# Altium integrated library NSC Amplifier.IntLib: 1615 symbols (part 23 of 44)
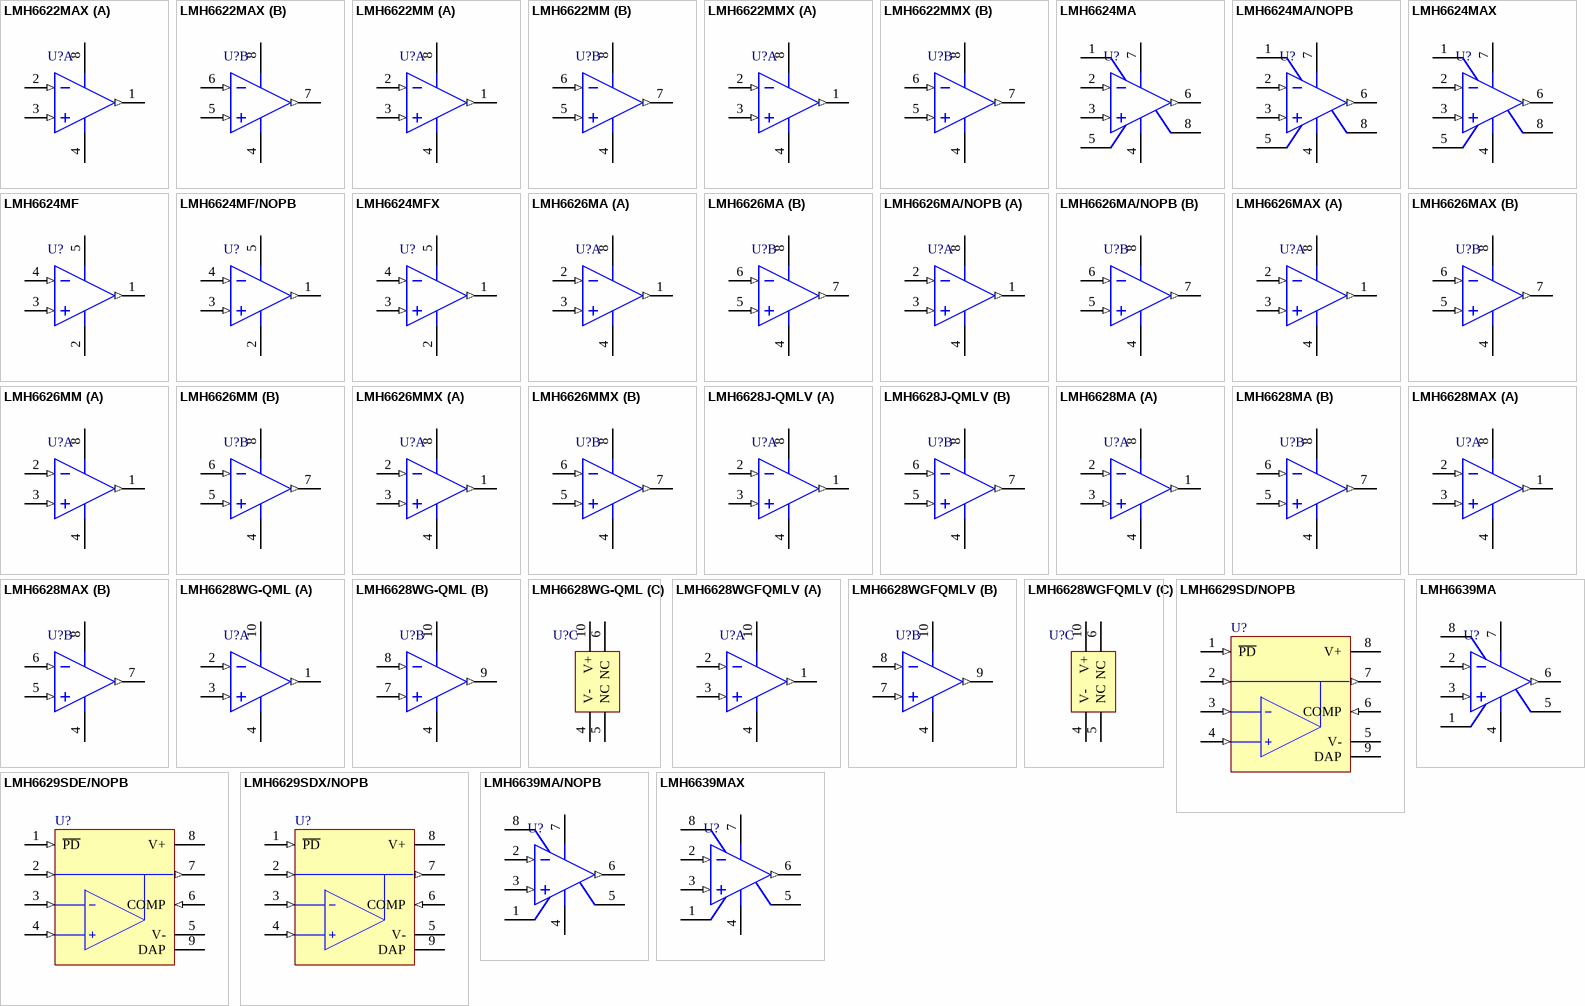
[diagram p104: symbols LMH6622MAX to LMH6639MAX]

## LMH6628MAX
designator U?
Dual Wideband, Low Noise, Voltage Feedback Op Amp, 8-pin Narrow SOIC; PartNumber: LMH6628MAX; Manufacturer: National Semiconductor; PackageTopMarking: NSZXTT*LMH66*28MA; PowerWise: Y; CompType: Amplifiers; Published: 1-Mar-2010; DatasheetVersion: May-2005; PackageVersion: revM, May-2009; PackageReference: M08A; Publisher: Altium Limited; PackageDescription: SOIC Narrow, 4.9 x 3.9 x 1.45mm, 8 Lead, 1.27mm Pitch; RoHS: N; PinCount: 8; Code_JEDEC: MS-012-AA; Code_IPC: SOIC127P600-8; ComponentLink1Description: LMH6628 Datasheet; ComponentLink1URL: http://www.national.com/ds/LM/LMH6628.pdf; ComponentLink2Description: LMH6628 Web Page; ComponentLink2URL: http://www.national.com/pf/LM/LMH6628.html; ComponentLink3Description: M08A Package Page; ComponentLink3URL: http://www.national.com/packaging/folders/m08a.html
footprint M08A_N (SOIC, 8-Leads, Body 4.9x3.9mm, Pitch 1.27mm, IPC Medium Density)
footprint M08A_L (SOIC, 8-Leads, Body 4.9x3.9mm, Pitch 1.27mm, IPC High Density)
footprint M08A_M (SOIC, 8-Leads, Body 4.9x3.9mm, Pitch 1.27mm, IPC Low Density)
simulation model LMH6628 (SUBCKT)
pins on every part: 4 V- (power), 8 V+ (power)
part A pins: 1 OUT1 (out), 2 IN1- (in), 3 IN1+ (in)
part B pins: 5 IN2+ (in), 6 IN2- (in), 7 OUT2 (out)

## LMH6628WG-QML
designator U?
Dual Wideband, Low Noise, Voltage Feedback Op Amp, 10-pin CerPACK; PartNumber: LMH6628WG-QML; Manufacturer: National Semiconductor; PackageTopMarking: NS5962-02*54501MZA*LMH6628*WG-QML Q*ZSSXXYYA; PowerWise: Y; CompType: Amplifiers; Published: 29-May-2009; DatasheetVersion: May-2005; PackageVersion: revF, Oct-2008; PackageReference: WG10A; Publisher: Altium Limited; PackageDescription: Cerpack, .270 x .241 x .070in, 10 Lead, .050in Pitch, Gull Wing; RoHS: N; PinCount: 10; High-Reliability: Y; ComponentLink1Description: LMH6628 Datasheet; ComponentLink1URL: http://www.national.com/ds/LM/LMH6628.pdf; ComponentLink2Description: LMH6628 Web Page; ComponentLink2URL: http://www.national.com/pf/LM/LMH6628.html; ComponentLink3Description: WG10A Package Page; ComponentLink3URL: http://www.national.com/packaging/folders/wg10a.html
footprint WG10A_N (CERPACK, 10-Leads, Body 6.9x6.3mm, Pitch 1.27mm, IPC Medium Density)
footprint WG10A_L (CERPACK, 10-Leads, Body 6.9x6.3mm, Pitch 1.27mm, IPC High Density)
footprint WG10A_M (CERPACK, 10-Leads, Body 6.9x6.3mm, Pitch 1.27mm, IPC Low Density)
simulation model LMH6628 (SUBCKT)
pins on every part: 4 V- (power), 10 V+ (power)
part A pins: 1 OUTA (out), 2 INA- (in), 3 INA+ (in)
part B pins: 7 INB+ (in), 8 INB- (in), 9 OUTB (out)
part C pins: 5 NC, 6 NC

## LMH6628WGFQMLV
designator U?
Dual Wideband, Low Noise, Voltage Feedback Op Amp, 10-pin CerPACK; PartNumber: LMH6628WGFQMLV; Manufacturer: National Semiconductor; PackageTopMarking: NS5962F02*54501VZA*LMH6628*WGFQV Q*ZSSXXYYA; PowerWise: Y; CompType: Amplifiers; Published: 29-May-2009; DatasheetVersion: May-2005; PackageVersion: revF, Oct-2008; PackageReference: WG10A; Publisher: Altium Limited; PackageDescription: Cerpack, .270 x .241 x .070in, 10 Lead, .050in Pitch, Gull Wing; RoHS: N; PinCount: 10; High-Reliability: Y; ComponentLink1Description: LMH6628 Datasheet; ComponentLink1URL: http://www.national.com/ds/LM/LMH6628.pdf; ComponentLink2Description: LMH6628 Web Page; ComponentLink2URL: http://www.national.com/pf/LM/LMH6628.html; ComponentLink3Description: WG10A Package Page; ComponentLink3URL: http://www.national.com/packaging/folders/wg10a.html
footprint WG10A_N (CERPACK, 10-Leads, Body 6.9x6.3mm, Pitch 1.27mm, IPC Medium Density)
footprint WG10A_L (CERPACK, 10-Leads, Body 6.9x6.3mm, Pitch 1.27mm, IPC High Density)
footprint WG10A_M (CERPACK, 10-Leads, Body 6.9x6.3mm, Pitch 1.27mm, IPC Low Density)
simulation model LMH6628 (SUBCKT)
pins on every part: 4 V- (power), 10 V+ (power)
part A pins: 1 OUTA (out), 2 INA- (in), 3 INA+ (in)
part B pins: 7 INB+ (in), 8 INB- (in), 9 OUTB (out)
part C pins: 5 NC, 6 NC

## LMH6629SD/NOPB
designator U?
Ultra-Low Noise, High Speed Operational Amplifier, 8 pin LLP; PartNumber: LMH6629SD/NOPB; Manufacturer: National Semiconductor; PackageTopMarking: ZXYTT*L6629; PowerWise: Y; CompType: Amplifiers; Published: 16-Nov-2010; DatasheetVersion: Jun-2010; PackageVersion: revA, Aug-2003; PackageReference: SDA08A; Publisher: Altium Limited; PackageDescription: LLP, Plastic, Dual, 3 x 3 x 0.8mm Body, 8 Lead, 0.5mm Pitch, No Pullback; Supplier 1: Digi-Key; Supplier Part Number 1: LMH6629SDTR-ND; Supplier 2: Digi-Key; Supplier Part Number 2: LMH6629SDCT-ND; Supplier 3: Digi-Key; Supplier Part Number 3: LMH6629SDDKR-ND; RoHS: Y; PinCount: 8; ComponentLink1Description: LMH6629 Datasheet; ComponentLink1URL: http://www.national.com/ds/LM/LMH6629.pdf; ComponentLink2Description: LMH6629 Web Page; ComponentLink2URL: http://www.national.com/pf/LM/LMH6629.html; ComponentLink3Description: SDA08A Package Page; ComponentLink3URL: http://www.national.com/packaging/folders/sda08a.html
footprint SDA08A (SON, 8-Leads, Body 3x3mm, Pitch 0.5mm, NSC Recommended)
pins: 1 ~{PD} (in), 2 FB (in), 3 IN- (in), 4 IN+ (in), 5 V- (power), 6 COMP (in), 7 OUT (out), 8 V+ (power), 9 DAP (power)

## LMH6629SDE/NOPB
designator U?
Ultra-Low Noise, High Speed Operational Amplifier, 8 pin LLP; PartNumber: LMH6629SDE/NOPB; Manufacturer: National Semiconductor; PackageTopMarking: ZXYTT*L6629; PowerWise: Y; CompType: Amplifiers; Published: 16-Nov-2010; DatasheetVersion: Jun-2010; PackageVersion: revA, Aug-2003; PackageReference: SDA08A; Publisher: Altium Limited; PackageDescription: LLP, Plastic, Dual, 3 x 3 x 0.8mm Body, 8 Lead, 0.5mm Pitch, No Pullback; Supplier 1: Digi-Key; Supplier Part Number 1: LMH6629SDE/NOPB-ND; Supplier 2: Farnell; Supplier Part Number 2: 1836670; RoHS: Y; PinCount: 8; ComponentLink1Description: LMH6629 Datasheet; ComponentLink1URL: http://www.national.com/ds/LM/LMH6629.pdf; ComponentLink2Description: LMH6629 Web Page; ComponentLink2URL: http://www.national.com/pf/LM/LMH6629.html; ComponentLink3Description: SDA08A Package Page; ComponentLink3URL: http://www.national.com/packaging/folders/sda08a.html
footprint SDA08A (SON, 8-Leads, Body 3x3mm, Pitch 0.5mm, NSC Recommended)
pins: 1 ~{PD} (in), 2 FB (in), 3 IN- (in), 4 IN+ (in), 5 V- (power), 6 COMP (in), 7 OUT (out), 8 V+ (power), 9 DAP (power)

## LMH6629SDX/NOPB
designator U?
Ultra-Low Noise, High Speed Operational Amplifier, 8 pin LLP; PartNumber: LMH6629SDX/NOPB; Manufacturer: National Semiconductor; PackageTopMarking: ZXYTT*L6629; PowerWise: Y; CompType: Amplifiers; Published: 16-Nov-2010; DatasheetVersion: Jun-2010; PackageVersion: revA, Aug-2003; PackageReference: SDA08A; Publisher: Altium Limited; PackageDescription: LLP, Plastic, Dual, 3 x 3 x 0.8mm Body, 8 Lead, 0.5mm Pitch, No Pullback; Supplier 1: Digi-Key; Supplier Part Number 1: LMH6629SDX/NOPB-ND; RoHS: Y; PinCount: 8; ComponentLink1Description: LMH6629 Datasheet; ComponentLink1URL: http://www.national.com/ds/LM/LMH6629.pdf; ComponentLink2Description: LMH6629 Web Page; ComponentLink2URL: http://www.national.com/pf/LM/LMH6629.html; ComponentLink3Description: SDA08A Package Page; ComponentLink3URL: http://www.national.com/packaging/folders/sda08a.html
footprint SDA08A (SON, 8-Leads, Body 3x3mm, Pitch 0.5mm, NSC Recommended)
pins: 1 ~{PD} (in), 2 FB (in), 3 IN- (in), 4 IN+ (in), 5 V- (power), 6 COMP (in), 7 OUT (out), 8 V+ (power), 9 DAP (power)

## LMH6639MA
designator U?
190MHz Rail-to-Rail Output Amplifier with Disable, 8-pin Narrow SOIC; PartNumber: LMH6639MA; Manufacturer: National Semiconductor; PackageTopMarking: NSZXTT*LMH66*39MA; PowerWise: Y; CompType: Amplifiers; Published: 4-Dec-2008; LatestRevisionDate: 13-Jan-2009; LatestRevisionNote: Sim Model Added.; DatasheetVersion: Dec-2004; PackageVersion: revM, May-2009; PackageReference: M08A; Publisher: Altium Limited; PackageDescription: SOIC Narrow, 4.9 x 3.9 x 1.45mm, 8 Lead, 1.27mm Pitch; Supplier 1: Farnell; Supplier Part Number 1: 1286940; RoHS: N; PinCount: 8; Code_JEDEC: MS-012-AA; Code_IPC: SOIC127P600-8; ComponentLink1Description: LMH6639 Datasheet; ComponentLink1URL: http://www.national.com/ds/LM/LMH6639.pdf; ComponentLink2Description: LMH6639 Web Page; ComponentLink2URL: http://www.national.com/pf/LM/LMH6639.html; ComponentLink3Description: M08A Package Page; ComponentLink3URL: http://www.national.com/packaging/folders/m08a.html
footprint M08A_N (SOIC, 8-Leads, Body 4.9x3.9mm, Pitch 1.27mm, IPC Medium Density)
footprint M08A_L (SOIC, 8-Leads, Body 4.9x3.9mm, Pitch 1.27mm, IPC High Density)
footprint M08A_M (SOIC, 8-Leads, Body 4.9x3.9mm, Pitch 1.27mm, IPC Low Density)
simulation model LMH6639 (SUBCKT)
pins: 1 NC, 2 IN- (in), 3 IN+ (in), 4 V- (power), 5 NC, 6 OUT (out), 7 V+ (power), 8 ~{SD}

## LMH6639MA/NOPB
designator U?
190MHz Rail-to-Rail Output Amplifier with Disable, 8-pin Narrow SOIC, Pb-Free; PartNumber: LMH6639MA/NOPB; Manufacturer: National Semiconductor; PackageTopMarking: NSZXTT*LMH66*39MA; PowerWise: Y; CompType: Amplifiers; Published: 1-Mar-2010; DatasheetVersion: Dec-2004; PackageVersion: revM, May-2009; PackageReference: M08A; Publisher: Altium Limited; PackageDescription: SOIC Narrow, 4.9 x 3.9 x 1.45mm, 8 Lead, 1.27mm Pitch; Supplier 1: Digi-Key; Supplier Part Number 1: LMH6639MA-ND; Supplier 2: Farnell; Supplier Part Number 2: 1693960; RoHS: Y; PinCount: 8; Code_JEDEC: MS-012-AA; Code_IPC: SOIC127P600-8; ComponentLink1Description: LMH6639 Datasheet; ComponentLink1URL: http://www.national.com/ds/LM/LMH6639.pdf; ComponentLink2Description: LMH6639 Web Page; ComponentLink2URL: http://www.national.com/pf/LM/LMH6639.html; ComponentLink3Description: M08A Package Page; ComponentLink3URL: http://www.national.com/packaging/folders/m08a.html
footprint M08A_N (SOIC, 8-Leads, Body 4.9x3.9mm, Pitch 1.27mm, IPC Medium Density)
footprint M08A_L (SOIC, 8-Leads, Body 4.9x3.9mm, Pitch 1.27mm, IPC High Density)
footprint M08A_M (SOIC, 8-Leads, Body 4.9x3.9mm, Pitch 1.27mm, IPC Low Density)
simulation model LMH6639 (SUBCKT)
pins: 1 NC, 2 IN- (in), 3 IN+ (in), 4 V- (power), 5 NC, 6 OUT (out), 7 V+ (power), 8 ~{SD}

## LMH6639MAX
designator U?
190MHz Rail-to-Rail Output Amplifier with Disable, 8-pin Narrow SOIC; PartNumber: LMH6639MAX; Manufacturer: National Semiconductor; PackageTopMarking: NSZXTT*LMH66*39MA; PowerWise: Y; CompType: Amplifiers; Published: 1-Mar-2010; DatasheetVersion: Dec-2004; PackageVersion: revM, May-2009; PackageReference: M08A; Publisher: Altium Limited; PackageDescription: SOIC Narrow, 4.9 x 3.9 x 1.45mm, 8 Lead, 1.27mm Pitch; RoHS: N; PinCount: 8; Code_JEDEC: MS-012-AA; Code_IPC: SOIC127P600-8; ComponentLink1Description: LMH6639 Datasheet; ComponentLink1URL: http://www.national.com/ds/LM/LMH6639.pdf; ComponentLink2Description: LMH6639 Web Page; ComponentLink2URL: http://www.national.com/pf/LM/LMH6639.html; ComponentLink3Description: M08A Package Page; ComponentLink3URL: http://www.national.com/packaging/folders/m08a.html
footprint M08A_N (SOIC, 8-Leads, Body 4.9x3.9mm, Pitch 1.27mm, IPC Medium Density)
footprint M08A_L (SOIC, 8-Leads, Body 4.9x3.9mm, Pitch 1.27mm, IPC High Density)
footprint M08A_M (SOIC, 8-Leads, Body 4.9x3.9mm, Pitch 1.27mm, IPC Low Density)
simulation model LMH6639 (SUBCKT)
pins: 1 NC, 2 IN- (in), 3 IN+ (in), 4 V- (power), 5 NC, 6 OUT (out), 7 V+ (power), 8 ~{SD}

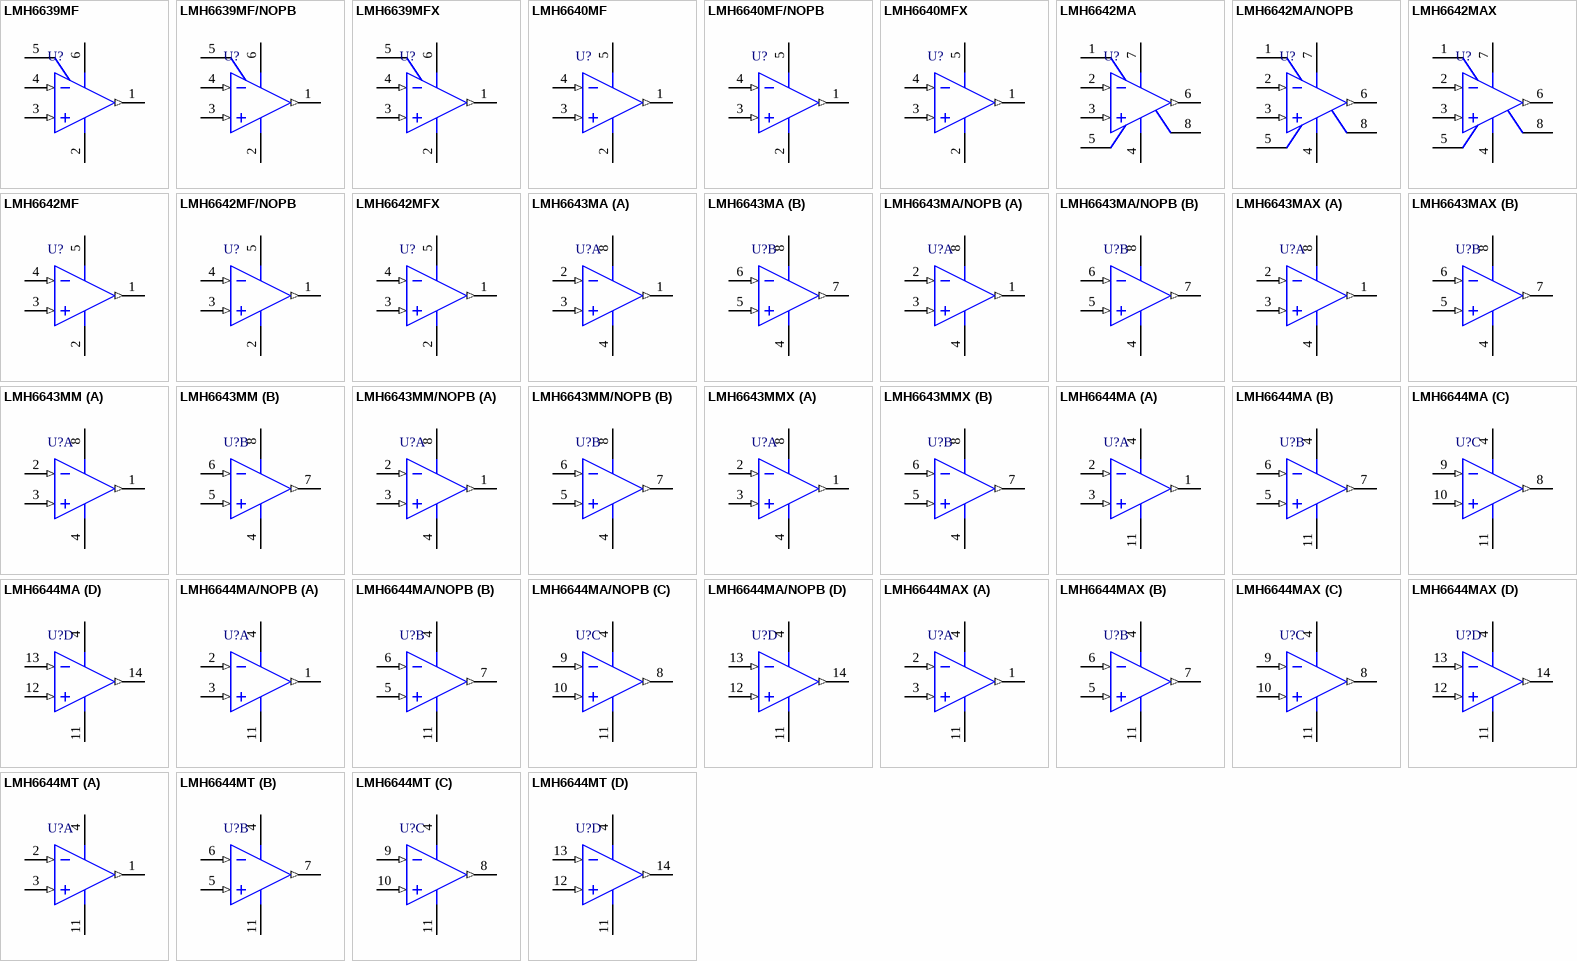
[diagram p46: symbols LMH6639MF to LMH6644MT]

## LMH6639MF
designator U?
190MHz Rail-to-Rail Output Amplifier with Disable, 6-pin SOT-23; PartNumber: LMH6639MF; Manufacturer: National Semiconductor; PackageTopMarking: A81A*XTT; PowerWise: Y; CompType: Amplifiers; Published: 4-Dec-2008; LatestRevisionDate: 13-Jan-2009; LatestRevisionNote: Sim Model Added.; DatasheetVersion: Dec-2004; PackageVersion: revC, Sep-2005; PackageReference: MF06A; Publisher: Altium Limited; PackageDescription: Molded SOT-23, .115 x .063 x .040in Body, 6 Lead, .0375in in Pitch; Supplier 1: Farnell; Supplier Part Number 1: 1312810; RoHS: N; PinCount: 6; Code_JEDEC: MO-178-AB; Code_IPC: SOT26A-6; ComponentLink1Description: LMH6639 Datasheet; ComponentLink1URL: http://www.national.com/ds/LM/LMH6639.pdf; ComponentLink2Description: LMH6639 Web Page; ComponentLink2URL: http://www.national.com/pf/LM/LMH6639.html; ComponentLink3Description: MF06A Package Page; ComponentLink3URL: http://www.national.com/packaging/folders/mf06a.html
footprint MF06A_N (SOT23, 6-Leads, Body 2.9x1.6mm, Pitch 0.95mm, Lead Span 2.8mm, IPC Medium Density)
footprint MF06A_L (SOT23, 6-Leads, Body 2.9x1.6mm, Pitch 0.95mm, Lead Span 2.8mm, IPC High Density)
footprint MF06A_M (SOT23, 6-Leads, Body 2.9x1.6mm, Pitch 0.95mm, Lead Span 2.8mm, IPC Low Density)
simulation model LMH6639 (SUBCKT)
pins: 1 OUT (out), 2 V- (power), 3 IN+ (in), 4 IN- (in), 5 ~{SD}, 6 V+ (power)

## LMH6639MF/NOPB
designator U?
190MHz Rail-to-Rail Output Amplifier with Disable, 6-pin SOT-23, Pb-Free; PartNumber: LMH6639MF/NOPB; Manufacturer: National Semiconductor; PackageTopMarking: A81A*XTT; PowerWise: Y; CompType: Amplifiers; Published: 1-Mar-2010; DatasheetVersion: Dec-2004; PackageVersion: revC, Sep-2005; PackageReference: MF06A; Publisher: Altium Limited; PackageDescription: Molded SOT-23, .115 x .063 x .040in Body, 6 Lead, .0375in in Pitch; Supplier 1: Digi-Key; Supplier Part Number 1: LMH6639MFTR-ND; Supplier 2: Digi-Key; Supplier Part Number 2: LMH6639MFCT-ND; Supplier 3: Digi-Key; Supplier Part Number 3: LMH6639MFDKR-ND; Supplier 4: Farnell; Supplier Part Number 4: 1559324; RoHS: Y; PinCount: 6; Code_JEDEC: MO-178-AB; Code_IPC: SOT26A-6; ComponentLink1Description: LMH6639 Datasheet; ComponentLink1URL: http://www.national.com/ds/LM/LMH6639.pdf; ComponentLink2Description: LMH6639 Web Page; ComponentLink2URL: http://www.national.com/pf/LM/LMH6639.html; ComponentLink3Description: MF06A Package Page; ComponentLink3URL: http://www.national.com/packaging/folders/mf06a.html
footprint MF06A_N (SOT23, 6-Leads, Body 2.9x1.6mm, Pitch 0.95mm, Lead Span 2.8mm, IPC Medium Density)
footprint MF06A_L (SOT23, 6-Leads, Body 2.9x1.6mm, Pitch 0.95mm, Lead Span 2.8mm, IPC High Density)
footprint MF06A_M (SOT23, 6-Leads, Body 2.9x1.6mm, Pitch 0.95mm, Lead Span 2.8mm, IPC Low Density)
simulation model LMH6639 (SUBCKT)
pins: 1 OUT (out), 2 V- (power), 3 IN+ (in), 4 IN- (in), 5 ~{SD}, 6 V+ (power)

## LMH6639MFX
designator U?
190MHz Rail-to-Rail Output Amplifier with Disable, 6-pin SOT-23; PartNumber: LMH6639MFX; Manufacturer: National Semiconductor; PackageTopMarking: A81A*XTT; PowerWise: Y; CompType: Amplifiers; Published: 1-Mar-2010; DatasheetVersion: Dec-2004; PackageVersion: revC, Sep-2005; PackageReference: MF06A; Publisher: Altium Limited; PackageDescription: Molded SOT-23, .115 x .063 x .040in Body, 6 Lead, .0375in in Pitch; RoHS: N; PinCount: 6; Code_JEDEC: MO-178-AB; Code_IPC: SOT26A-6; ComponentLink1Description: LMH6639 Datasheet; ComponentLink1URL: http://www.national.com/ds/LM/LMH6639.pdf; ComponentLink2Description: LMH6639 Web Page; ComponentLink2URL: http://www.national.com/pf/LM/LMH6639.html; ComponentLink3Description: MF06A Package Page; ComponentLink3URL: http://www.national.com/packaging/folders/mf06a.html
footprint MF06A_N (SOT23, 6-Leads, Body 2.9x1.6mm, Pitch 0.95mm, Lead Span 2.8mm, IPC Medium Density)
footprint MF06A_L (SOT23, 6-Leads, Body 2.9x1.6mm, Pitch 0.95mm, Lead Span 2.8mm, IPC High Density)
footprint MF06A_M (SOT23, 6-Leads, Body 2.9x1.6mm, Pitch 0.95mm, Lead Span 2.8mm, IPC Low Density)
simulation model LMH6639 (SUBCKT)
pins: 1 OUT (out), 2 V- (power), 3 IN+ (in), 4 IN- (in), 5 ~{SD}, 6 V+ (power)

## LMH6640MF
designator U?
TFT-LCD Single, 16V, Rail-to-Rail High Output Operational Amplifier, 5-pin SOT-23; PartNumber: LMH6640MF; Manufacturer: National Semiconductor; PackageTopMarking: AH1A*XTT; PowerWise: N; CompType: Amplifiers; Published: 4-Dec-2008; DatasheetVersion: Nov-2004; PackageVersion: revD, Aug-2008; PackageReference: MF05A; Publisher: Altium Limited; PackageDescription: Molded SOT-23, .115 x .063 x .040 in Body, 5 Lead, .0375 in Pitch; Supplier 1: Farnell; Supplier Part Number 1: 8180776; RoHS: N; PinCount: 5; ComponentLink1Description: LMH6640 Datasheet; ComponentLink1URL: http://www.national.com/ds/LM/LMH6640.pdf; ComponentLink2Description: LMH6640 Web Page; ComponentLink2URL: http://www.national.com/pf/LM/LMH6640.html; ComponentLink3Description: MF05A Package Page; ComponentLink3URL: http://www.national.com/packaging/folders/mf05a.html
footprint MF05A_N (SOT23, 5-Leads, Body 2.9x1.6mm, Pitch 0.95mm, Lead Span 2.8mm, IPC Medium Density)
footprint MF05A_L (SOT23, 5-Leads, Body 2.9x1.6mm, Pitch 0.95mm, Lead Span 2.8mm, IPC High Density)
footprint MF05A_M (SOT23, 5-Leads, Body 2.9x1.6mm, Pitch 0.95mm, Lead Span 2.8mm, IPC Low Density)
pins: 1 OUT (out), 2 V- (power), 3 IN+ (in), 4 IN- (in), 5 V+ (power)

## LMH6640MF/NOPB
designator U?
TFT-LCD Single, 16V, Rail-to-Rail High Output Operational Amplifier, 5-pin SOT-23, Pb-Free; PartNumber: LMH6640MF/NOPB; Manufacturer: National Semiconductor; PackageTopMarking: AH1A*XTT; PowerWise: N; CompType: Amplifiers; Published: 1-Mar-2010; DatasheetVersion: Nov-2004; PackageVersion: revD, Aug-2008; PackageReference: MF05A; Publisher: Altium Limited; PackageDescription: Molded SOT-23, .115 x .063 x .040 in Body, 5 Lead, .0375 in Pitch; Supplier 1: Digi-Key; Supplier Part Number 1: LMH6640MFTR-ND; Supplier 2: Digi-Key; Supplier Part Number 2: LMH6640MFCT-ND; Supplier 3: Digi-Key; Supplier Part Number 3: LMH6640MFDKR-ND; Supplier 4: Farnell; Supplier Part Number 4: 1685371; RoHS: Y; PinCount: 5; ComponentLink1Description: LMH6640 Datasheet; ComponentLink1URL: http://www.national.com/ds/LM/LMH6640.pdf; ComponentLink2Description: LMH6640 Web Page; ComponentLink2URL: http://www.national.com/pf/LM/LMH6640.html; ComponentLink3Description: MF05A Package Page; ComponentLink3URL: http://www.national.com/packaging/folders/mf05a.html
footprint MF05A_N (SOT23, 5-Leads, Body 2.9x1.6mm, Pitch 0.95mm, Lead Span 2.8mm, IPC Medium Density)
footprint MF05A_L (SOT23, 5-Leads, Body 2.9x1.6mm, Pitch 0.95mm, Lead Span 2.8mm, IPC High Density)
footprint MF05A_M (SOT23, 5-Leads, Body 2.9x1.6mm, Pitch 0.95mm, Lead Span 2.8mm, IPC Low Density)
pins: 1 OUT (out), 2 V- (power), 3 IN+ (in), 4 IN- (in), 5 V+ (power)

## LMH6640MFX
designator U?
TFT-LCD Single, 16V, Rail-to-Rail High Output Operational Amplifier, 5-pin SOT-23; PartNumber: LMH6640MFX; Manufacturer: National Semiconductor; PackageTopMarking: AH1A*XTT; PowerWise: N; CompType: Amplifiers; Published: 1-Mar-2010; DatasheetVersion: Nov-2004; PackageVersion: revD, Aug-2008; PackageReference: MF05A; Publisher: Altium Limited; PackageDescription: Molded SOT-23, .115 x .063 x .040 in Body, 5 Lead, .0375 in Pitch; RoHS: N; PinCount: 5; ComponentLink1Description: LMH6640 Datasheet; ComponentLink1URL: http://www.national.com/ds/LM/LMH6640.pdf; ComponentLink2Description: LMH6640 Web Page; ComponentLink2URL: http://www.national.com/pf/LM/LMH6640.html; ComponentLink3Description: MF05A Package Page; ComponentLink3URL: http://www.national.com/packaging/folders/mf05a.html
footprint MF05A_N (SOT23, 5-Leads, Body 2.9x1.6mm, Pitch 0.95mm, Lead Span 2.8mm, IPC Medium Density)
footprint MF05A_L (SOT23, 5-Leads, Body 2.9x1.6mm, Pitch 0.95mm, Lead Span 2.8mm, IPC High Density)
footprint MF05A_M (SOT23, 5-Leads, Body 2.9x1.6mm, Pitch 0.95mm, Lead Span 2.8mm, IPC Low Density)
pins: 1 OUT (out), 2 V- (power), 3 IN+ (in), 4 IN- (in), 5 V+ (power)

## LMH6642MA
designator U?
Low Power, 130MHz, 75mA Rail-to-Rail Output Amplifier, 8-pin Narrow SOIC; PartNumber: LMH6642MA; Manufacturer: National Semiconductor; PackageTopMarking: NSZXTT*LMH66*42MA; PowerWise: Y; CompType: Amplifiers; Published: 4-Dec-2008; LatestRevisionDate: 13-Jan-2009; LatestRevisionNote: Sim Model Added.; DatasheetVersion: Nov-2009; PackageVersion: revM, May-2009; PackageReference: M08A; Publisher: Altium Limited; PackageDescription: SOIC Narrow, 4.9 x 3.9 x 1.45mm, 8 Lead, 1.27mm Pitch; Supplier 1: Farnell; Supplier Part Number 1: 9490167; RoHS: N; PinCount: 8; Code_JEDEC: MS-012-AA; Code_IPC: SOIC127P600-8; ComponentLink1Description: LMH6642 Datasheet; ComponentLink1URL: http://www.national.com/ds/LM/LMH6642.pdf; ComponentLink2Description: LMH6642 Web Page; ComponentLink2URL: http://www.national.com/pf/LM/LMH6642.html; ComponentLink3Description: M08A Package Page; ComponentLink3URL: http://www.national.com/packaging/folders/m08a.html
footprint M08A_N (SOIC, 8-Leads, Body 4.9x3.9mm, Pitch 1.27mm, IPC Medium Density)
footprint M08A_L (SOIC, 8-Leads, Body 4.9x3.9mm, Pitch 1.27mm, IPC High Density)
footprint M08A_M (SOIC, 8-Leads, Body 4.9x3.9mm, Pitch 1.27mm, IPC Low Density)
simulation model LMH6642 (SUBCKT)
pins: 1 NC, 2 IN- (in), 3 IN+ (in), 4 V- (power), 5 NC, 6 OUT (out), 7 V+ (power), 8 NC

## LMH6642MA/NOPB
designator U?
Low Power, 130MHz, 75mA Rail-to-Rail Output Amplifiers, 8-pin Narrow SOIC, Pb-Free; PartNumber: LMH6642MA/NOPB; Manufacturer: National Semiconductor; PackageTopMarking: NSZXTT*LMH66*42MA; PowerWise: Y; Published: 1-Mar-2010; DatasheetVersion: Nov-2009; PackageVersion: revM, May-2009; PackageReference: M08A; Publisher: Altium Limited; PackageDescription: SOIC Narrow, 4.9 x 3.9 x 1.45mm, 8 Lead, 1.27mm Pitch; Supplier 1: Digi-Key; Supplier Part Number 1: LMH6642MA-ND; Supplier 2: Farnell; Supplier Part Number 2: 1367574; RoHS: Y; PinCount: 8; CompType: Amplifiers; Code_JEDEC: MS-012-AA; Code_IPC: SOIC127P600-8; ComponentLink1Description: LMH6642 Datasheet; ComponentLink1URL: http://www.national.com/ds/LM/LMH6642.pdf; ComponentLink2Description: LMH6642 Web Page; ComponentLink2URL: http://www.national.com/pf/LM/LMH6642.html; ComponentLink3Description: M08A Package Page; ComponentLink3URL: http://www.national.com/packaging/folders/m08a.html
footprint M08A_N (SOIC, 8-Leads, Body 4.9x3.9mm, Pitch 1.27mm, IPC Medium Density)
footprint M08A_L (SOIC, 8-Leads, Body 4.9x3.9mm, Pitch 1.27mm, IPC High Density)
footprint M08A_M (SOIC, 8-Leads, Body 4.9x3.9mm, Pitch 1.27mm, IPC Low Density)
simulation model LMH6642 (SUBCKT)
pins: 1 NC, 2 IN- (in), 3 IN+ (in), 4 V- (power), 5 NC, 6 OUT (out), 7 V+ (power), 8 NC

## LMH6642MAX
designator U?
Low Power, 130MHz, 75mA Rail-to-Rail Output Amplifiers, 8-pin Narrow SOIC; PartNumber: LMH6642MAX; Manufacturer: National Semiconductor; PackageTopMarking: NSZXTT*LMH66*42MA; PowerWise: Y; Published: 1-Mar-2010; DatasheetVersion: Nov-2009; PackageVersion: revM, May-2009; PackageReference: M08A; Publisher: Altium Limited; PackageDescription: SOIC Narrow, 4.9 x 3.9 x 1.45mm, 8 Lead, 1.27mm Pitch; RoHS: N; PinCount: 8; CompType: Amplifiers; Code_JEDEC: MS-012-AA; Code_IPC: SOIC127P600-8; ComponentLink1Description: LMH6642 Datasheet; ComponentLink1URL: http://www.national.com/ds/LM/LMH6642.pdf; ComponentLink2Description: LMH6642 Web Page; ComponentLink2URL: http://www.national.com/pf/LM/LMH6642.html; ComponentLink3Description: M08A Package Page; ComponentLink3URL: http://www.national.com/packaging/folders/m08a.html
footprint M08A_N (SOIC, 8-Leads, Body 4.9x3.9mm, Pitch 1.27mm, IPC Medium Density)
footprint M08A_L (SOIC, 8-Leads, Body 4.9x3.9mm, Pitch 1.27mm, IPC High Density)
footprint M08A_M (SOIC, 8-Leads, Body 4.9x3.9mm, Pitch 1.27mm, IPC Low Density)
simulation model LMH6642 (SUBCKT)
pins: 1 NC, 2 IN- (in), 3 IN+ (in), 4 V- (power), 5 NC, 6 OUT (out), 7 V+ (power), 8 NC

## LMH6642MF
designator U?
Low Power, 130MHz, 75mA Rail-to-Rail Output Amplifier, 5-pin SOT-23; PartNumber: LMH6642MF; Manufacturer: National Semiconductor; PackageTopMarking: A64A*XTT; PowerWise: Y; CompType: Amplifiers; Published: 4-Dec-2008; LatestRevisionDate: 13-Jan-2009; LatestRevisionNote: Sim Model Added.; DatasheetVersion: Nov-2009; PackageVersion: revD, Aug-2008; PackageReference: MF05A; Publisher: Altium Limited; PackageDescription: Molded SOT-23, .115 x .063 x .040 in Body, 5 Lead, .0375 in Pitch; Supplier 1: Farnell; Supplier Part Number 1: 1312811; RoHS: N; PinCount: 5; ComponentLink1Description: LMH6642 Datasheet; ComponentLink1URL: http://www.national.com/ds/LM/LMH6642.pdf; ComponentLink2Description: LMH6642 Web Page; ComponentLink2URL: http://www.national.com/pf/LM/LMH6642.html; ComponentLink3Description: MF05A Package Page; ComponentLink3URL: http://www.national.com/packaging/folders/mf05a.html
footprint MF05A_N (SOT23, 5-Leads, Body 2.9x1.6mm, Pitch 0.95mm, Lead Span 2.8mm, IPC Medium Density)
footprint MF05A_L (SOT23, 5-Leads, Body 2.9x1.6mm, Pitch 0.95mm, Lead Span 2.8mm, IPC High Density)
footprint MF05A_M (SOT23, 5-Leads, Body 2.9x1.6mm, Pitch 0.95mm, Lead Span 2.8mm, IPC Low Density)
simulation model LMH6642 (SUBCKT)
pins: 1 OUT (out), 2 V- (power), 3 IN+ (in), 4 IN- (in), 5 V+ (power)

## LMH6642MF/NOPB
designator U?
Low Power, 130MHz, 75mA Rail-to-Rail Output Amplifiers, 5-pin SOT-23, Pb-Free; PartNumber: LMH6642MF/NOPB; Manufacturer: National Semiconductor; PackageTopMarking: A64A*XTT; PowerWise: Y; Published: 1-Mar-2010; DatasheetVersion: Nov-2009; PackageVersion: revD, Aug-2008; PackageReference: MF05A; Publisher: Altium Limited; PackageDescription: Molded SOT-23, .115 x .063 x .040 in Body, 5 Lead, .0375 in Pitch; Supplier 1: Digi-Key; Supplier Part Number 1: LMH6642MFTR-ND; Supplier 2: Digi-Key; Supplier Part Number 2: LMH6642MFCT-ND; Supplier 3: Digi-Key; Supplier Part Number 3: LMH6642MFDKR-ND; Supplier 4: Farnell; Supplier Part Number 4: 1468898; RoHS: Y; PinCount: 5; CompType: Amplifiers; ComponentLink1Description: LMH6642 Datasheet; ComponentLink1URL: http://www.national.com/ds/LM/LMH6642.pdf; ComponentLink2Description: LMH6642 Web Page; ComponentLink2URL: http://www.national.com/pf/LM/LMH6642.html; ComponentLink3Description: MF05A Package Page; ComponentLink3URL: http://www.national.com/packaging/folders/mf05a.html
footprint MF05A_N (SOT23, 5-Leads, Body 2.9x1.6mm, Pitch 0.95mm, Lead Span 2.8mm, IPC Medium Density)
footprint MF05A_L (SOT23, 5-Leads, Body 2.9x1.6mm, Pitch 0.95mm, Lead Span 2.8mm, IPC High Density)
footprint MF05A_M (SOT23, 5-Leads, Body 2.9x1.6mm, Pitch 0.95mm, Lead Span 2.8mm, IPC Low Density)
simulation model LMH6642 (SUBCKT)
pins: 1 OUT (out), 2 V- (power), 3 IN+ (in), 4 IN- (in), 5 V+ (power)

## LMH6642MFX
designator U?
Low Power, 130MHz, 75mA Rail-to-Rail Output Amplifiers, 5-pin SOT-23; PartNumber: LMH6642MFX; Manufacturer: National Semiconductor; PackageTopMarking: A64A*XTT; PowerWise: Y; Published: 1-Mar-2010; DatasheetVersion: Nov-2009; PackageVersion: revD, Aug-2008; PackageReference: MF05A; Publisher: Altium Limited; PackageDescription: Molded SOT-23, .115 x .063 x .040 in Body, 5 Lead, .0375 in Pitch; RoHS: N; PinCount: 5; CompType: Amplifiers; ComponentLink1Description: LMH6642 Datasheet; ComponentLink1URL: http://www.national.com/ds/LM/LMH6642.pdf; ComponentLink2Description: LMH6642 Web Page; ComponentLink2URL: http://www.national.com/pf/LM/LMH6642.html; ComponentLink3Description: MF05A Package Page; ComponentLink3URL: http://www.national.com/packaging/folders/mf05a.html
footprint MF05A_N (SOT23, 5-Leads, Body 2.9x1.6mm, Pitch 0.95mm, Lead Span 2.8mm, IPC Medium Density)
footprint MF05A_L (SOT23, 5-Leads, Body 2.9x1.6mm, Pitch 0.95mm, Lead Span 2.8mm, IPC High Density)
footprint MF05A_M (SOT23, 5-Leads, Body 2.9x1.6mm, Pitch 0.95mm, Lead Span 2.8mm, IPC Low Density)
simulation model LMH6642 (SUBCKT)
pins: 1 OUT (out), 2 V- (power), 3 IN+ (in), 4 IN- (in), 5 V+ (power)

## LMH6643MA
designator U?
Low Power, 130MHz, 75mA Rail-to-Rail Output Amplifier, 8-pin Narrow SOIC; PartNumber: LMH6643MA; Manufacturer: National Semiconductor; PackageTopMarking: NSZXTT*LMH66*43MA; PowerWise: Y; CompType: Amplifiers; Published: 4-Dec-2008; LatestRevisionDate: 13-Jan-2009; LatestRevisionNote: Sim Model Added.; DatasheetVersion: Nov-2009; PackageVersion: revM, May-2009; PackageReference: M08A; Publisher: Altium Limited; PackageDescription: SOIC Narrow, 4.9 x 3.9 x 1.45mm, 8 Lead, 1.27mm Pitch; Supplier 1: Farnell; Supplier Part Number 1: 4538614; RoHS: N; PinCount: 8; Code_JEDEC: MS-012-AA; Code_IPC: SOIC127P600-8; ComponentLink1Description: LMH6643 Datasheet; ComponentLink1URL: http://www.national.com/ds/LM/LMH6643.pdf; ComponentLink2Description: LMH6643 Web Page; ComponentLink2URL: http://www.national.com/pf/LM/LMH6643.html; ComponentLink3Description: M08A Package Page; ComponentLink3URL: http://www.national.com/packaging/folders/m08a.html
footprint M08A_N (SOIC, 8-Leads, Body 4.9x3.9mm, Pitch 1.27mm, IPC Medium Density)
footprint M08A_L (SOIC, 8-Leads, Body 4.9x3.9mm, Pitch 1.27mm, IPC High Density)
footprint M08A_M (SOIC, 8-Leads, Body 4.9x3.9mm, Pitch 1.27mm, IPC Low Density)
simulation model LMH6643 (SUBCKT)
pins on every part: 4 V- (power), 8 V+ (power)
part A pins: 1 OUTA (out), 2 INA- (in), 3 INA+ (in)
part B pins: 5 INB+ (in), 6 INB- (in), 7 OUTB (out)

## LMH6643MA/NOPB
designator U?
Low Power, 130MHz, 75mA Rail-to-Rail Output Amplifiers, 8-pin Narrow SOIC, Pb-Free; PartNumber: LMH6643MA/NOPB; Manufacturer: National Semiconductor; PackageTopMarking: NSZXTT*LMH66*43MA; PowerWise: Y; Published: 1-Mar-2010; DatasheetVersion: Nov-2009; PackageVersion: revM, May-2009; PackageReference: M08A; Publisher: Altium Limited; PackageDescription: SOIC Narrow, 4.9 x 3.9 x 1.45mm, 8 Lead, 1.27mm Pitch; Supplier 1: Digi-Key; Supplier Part Number 1: LMH6643MA-ND; Supplier 2: Farnell; Supplier Part Number 2: 1199278; RoHS: Y; PinCount: 8; CompType: Amplifiers; Code_JEDEC: MS-012-AA; Code_IPC: SOIC127P600-8; ComponentLink1Description: LMH6643 Datasheet; ComponentLink1URL: http://www.national.com/ds/LM/LMH6643.pdf; ComponentLink2Description: LMH6643 Web Page; ComponentLink2URL: http://www.national.com/pf/LM/LMH6643.html; ComponentLink3Description: M08A Package Page; ComponentLink3URL: http://www.national.com/packaging/folders/m08a.html
footprint M08A_N (SOIC, 8-Leads, Body 4.9x3.9mm, Pitch 1.27mm, IPC Medium Density)
footprint M08A_L (SOIC, 8-Leads, Body 4.9x3.9mm, Pitch 1.27mm, IPC High Density)
footprint M08A_M (SOIC, 8-Leads, Body 4.9x3.9mm, Pitch 1.27mm, IPC Low Density)
simulation model LMH6643 (SUBCKT)
pins on every part: 4 V- (power), 8 V+ (power)
part A pins: 1 OUTA (out), 2 INA- (in), 3 INA+ (in)
part B pins: 5 INB+ (in), 6 INB- (in), 7 OUTB (out)

## LMH6643MAX
designator U?
Low Power, 130MHz, 75mA Rail-to-Rail Output Amplifiers, 8-pin Narrow SOIC; PartNumber: LMH6643MAX; Manufacturer: National Semiconductor; PackageTopMarking: NSZXTT*LMH66*43MA; PowerWise: Y; Published: 1-Mar-2010; DatasheetVersion: Nov-2009; PackageVersion: revM, May-2009; PackageReference: M08A; Publisher: Altium Limited; PackageDescription: SOIC Narrow, 4.9 x 3.9 x 1.45mm, 8 Lead, 1.27mm Pitch; RoHS: N; PinCount: 8; CompType: Amplifiers; Code_JEDEC: MS-012-AA; Code_IPC: SOIC127P600-8; ComponentLink1Description: LMH6643 Datasheet; ComponentLink1URL: http://www.national.com/ds/LM/LMH6643.pdf; ComponentLink2Description: LMH6643 Web Page; ComponentLink2URL: http://www.national.com/pf/LM/LMH6643.html; ComponentLink3Description: M08A Package Page; ComponentLink3URL: http://www.national.com/packaging/folders/m08a.html
footprint M08A_N (SOIC, 8-Leads, Body 4.9x3.9mm, Pitch 1.27mm, IPC Medium Density)
footprint M08A_L (SOIC, 8-Leads, Body 4.9x3.9mm, Pitch 1.27mm, IPC High Density)
footprint M08A_M (SOIC, 8-Leads, Body 4.9x3.9mm, Pitch 1.27mm, IPC Low Density)
simulation model LMH6643 (SUBCKT)
pins on every part: 4 V- (power), 8 V+ (power)
part A pins: 1 OUTA (out), 2 INA- (in), 3 INA+ (in)
part B pins: 5 INB+ (in), 6 INB- (in), 7 OUTB (out)

## LMH6643MM
designator U?
Low Power, 130MHz, 75mA Rail-to-Rail Output Amplifier, 8-pin Mini SOIC; PartNumber: LMH6643MM; Manufacturer: National Semiconductor; PackageTopMarking: ZXTT*A65A; PowerWise: Y; CompType: Amplifiers; Published: 4-Dec-2008; LatestRevisionDate: 13-Jan-2009; LatestRevisionNote: Sim Model Added.; DatasheetVersion: Nov-2009; PackageVersion: revF, Apr-2008; PackageReference: MUA08A; Publisher: Altium Limited; PackageDescription: MINI SOIC, .118 x .118 x .034in, 8 Lead, .0256in Pitch; Supplier 1: Farnell; Supplier Part Number 1: 1312812; RoHS: N; PinCount: 8; Code_JEDEC: MO-187-AA; ComponentLink1Description: LMH6643 Datasheet; ComponentLink1URL: http://www.national.com/ds/LM/LMH6643.pdf; ComponentLink2Description: LMH6643 Web Page; ComponentLink2URL: http://www.national.com/pf/LM/LMH6643.html; ComponentLink3Description: MUA08A Package Page; ComponentLink3URL: http://www.national.com/packaging/folders/mua08a.html
footprint MUA08A_N (TSOP, 8-Leads, Body 3x3mm, Pitch 0.65mm, IPC Medium Density)
footprint MUA08A_L (TSOP, 8-Leads, Body 3x3mm, Pitch 0.65mm, IPC High Density)
footprint MUA08A_M (TSOP, 8-Leads, Body 3x3mm, Pitch 0.65mm, IPC Low Density)
simulation model LMH6643 (SUBCKT)
pins on every part: 4 V- (power), 8 V+ (power)
part A pins: 1 OUTA (out), 2 INA- (in), 3 INA+ (in)
part B pins: 5 INB+ (in), 6 INB- (in), 7 OUTB (out)

## LMH6643MM/NOPB
designator U?
Low Power, 130MHz, 75mA Rail-to-Rail Output Amplifiers, 8-pin Mini SOIC, Pb-Free; PartNumber: LMH6643MM/NOPB; Manufacturer: National Semiconductor; PackageTopMarking: ZXTT*A65A; PowerWise: Y; Published: 1-Mar-2010; DatasheetVersion: Nov-2009; PackageVersion: revF, Apr-2008; PackageReference: MUA08A; Publisher: Altium Limited; PackageDescription: MINI SOIC, .118 x .118 x .034in, 8 Lead, .0256in Pitch; Supplier 1: Digi-Key; Supplier Part Number 1: LMH6643MMTR-ND; Supplier 2: Digi-Key; Supplier Part Number 2: LMH6643MMCT-ND; Supplier 3: Digi-Key; Supplier Part Number 3: LMH6643MMDKR-ND; Supplier 4: Farnell; Supplier Part Number 4: 1496041; RoHS: Y; PinCount: 8; CompType: Amplifiers; Code_JEDEC: MO-187-AA; ComponentLink1Description: LMH6643 Datasheet; ComponentLink1URL: http://www.national.com/ds/LM/LMH6643.pdf; ComponentLink2Description: LMH6643 Web Page; ComponentLink2URL: http://www.national.com/pf/LM/LMH6643.html; ComponentLink3Description: MUA08A Package Page; ComponentLink3URL: http://www.national.com/packaging/folders/mua08a.html
footprint MUA08A_N (TSOP, 8-Leads, Body 3x3mm, Pitch 0.65mm, IPC Medium Density)
footprint MUA08A_L (TSOP, 8-Leads, Body 3x3mm, Pitch 0.65mm, IPC High Density)
footprint MUA08A_M (TSOP, 8-Leads, Body 3x3mm, Pitch 0.65mm, IPC Low Density)
simulation model LMH6643 (SUBCKT)
pins on every part: 4 V- (power), 8 V+ (power)
part A pins: 1 OUTA (out), 2 INA- (in), 3 INA+ (in)
part B pins: 5 INB+ (in), 6 INB- (in), 7 OUTB (out)

## LMH6643MMX
designator U?
Low Power, 130MHz, 75mA Rail-to-Rail Output Amplifiers, 8-pin Mini SOIC; PartNumber: LMH6643MMX; Manufacturer: National Semiconductor; PackageTopMarking: ZXTT*A65A; PowerWise: Y; Published: 1-Mar-2010; DatasheetVersion: Nov-2009; PackageVersion: revF, Apr-2008; PackageReference: MUA08A; Publisher: Altium Limited; PackageDescription: MINI SOIC, .118 x .118 x .034in, 8 Lead, .0256in Pitch; RoHS: N; PinCount: 8; CompType: Amplifiers; Code_JEDEC: MO-187-AA; ComponentLink1Description: LMH6643 Datasheet; ComponentLink1URL: http://www.national.com/ds/LM/LMH6643.pdf; ComponentLink2Description: LMH6643 Web Page; ComponentLink2URL: http://www.national.com/pf/LM/LMH6643.html; ComponentLink3Description: MUA08A Package Page; ComponentLink3URL: http://www.national.com/packaging/folders/mua08a.html
footprint MUA08A_N (TSOP, 8-Leads, Body 3x3mm, Pitch 0.65mm, IPC Medium Density)
footprint MUA08A_L (TSOP, 8-Leads, Body 3x3mm, Pitch 0.65mm, IPC High Density)
footprint MUA08A_M (TSOP, 8-Leads, Body 3x3mm, Pitch 0.65mm, IPC Low Density)
simulation model LMH6643 (SUBCKT)
pins on every part: 4 V- (power), 8 V+ (power)
part A pins: 1 OUTA (out), 2 INA- (in), 3 INA+ (in)
part B pins: 5 INB+ (in), 6 INB- (in), 7 OUTB (out)

## LMH6644MA
designator U?
Low Power, 130MHz, 75mA Rail-to-Rail Output Amplifier, 14-pin Narrow SOIC; PartNumber: LMH6644MA; Manufacturer: National Semiconductor; PackageTopMarking: NSUZXYTTE#*LMH6644MA; PowerWise: Y; CompType: Amplifiers; Published: 4-Dec-2008; LatestRevisionDate: 13-Jan-2009; LatestRevisionNote: Sim Model Added.; DatasheetVersion: Nov-2009; PackageVersion: revJ, Jan-1996; PackageReference: M14A; Publisher: Altium Limited; PackageDescription: Molded Package S.O., .150in Wide, 14 Lead; RoHS: N; PinCount: 14; Code_JEDEC: MS-012AB; Code_IPC: SOIC127P600-14; ComponentLink1Description: LMH6644 Datasheet; ComponentLink1URL: http://www.national.com/ds/LM/LMH6644.pdf; ComponentLink2Description: LMH6644 Web Page; ComponentLink2URL: http://www.national.com/pf/LM/LMH6644.html; ComponentLink3Description: M14A Package Page; ComponentLink3URL: http://www.national.com/packaging/folders/m14a.html
footprint M14A_N (SOIC, 14-Leads, Body 8.6x3.9mm, Pitch 1.27mm, IPC Medium Density)
footprint M14A_L (SOIC, 14-Leads, Body 8.6x3.9mm, Pitch 1.27mm, IPC High Density)
footprint M14A_M (SOIC, 14-Leads, Body 8.6x3.9mm, Pitch 1.27mm, IPC Low Density)
simulation model LMH6644 (SUBCKT)
pins on every part: 4 V+ (power), 11 V- (power)
part A pins: 1 OUTA (out), 2 INA- (in), 3 INA+ (in)
part B pins: 5 INB+ (in), 6 INB- (in), 7 OUTB (out)
part C pins: 8 OUTC (out), 9 INC- (in), 10 INC+ (in)
part D pins: 12 IND+ (in), 13 IND- (in), 14 OUTD (out)

## LMH6644MA/NOPB
designator U?
Low Power, 130MHz, 75mA Rail-to-Rail Output Amplifiers, 14-pin Narrow SOIC, Pb-Free; PartNumber: LMH6644MA/NOPB; Manufacturer: National Semiconductor; PackageTopMarking: NSUZXYTTE#*LMH6644MA; PowerWise: Y; Published: 1-Mar-2010; DatasheetVersion: Nov-2009; PackageVersion: revJ, Jan-1996; PackageReference: M14A; Publisher: Altium Limited; PackageDescription: Molded Package S.O., .150in Wide, 14 Lead; Supplier 1: Digi-Key; Supplier Part Number 1: LMH6644MA-ND; Supplier 2: Farnell; Supplier Part Number 2: 1260745; RoHS: Y; PinCount: 14; CompType: Amplifiers; Code_JEDEC: MS-012AB; Code_IPC: SOIC127P600-14; ComponentLink1Description: LMH6644 Datasheet; ComponentLink1URL: http://www.national.com/ds/LM/LMH6644.pdf; ComponentLink2Description: LMH6644 Web Page; ComponentLink2URL: http://www.national.com/pf/LM/LMH6644.html; ComponentLink3Description: M14A Package Page; ComponentLink3URL: http://www.national.com/packaging/folders/m14a.html
footprint M14A_N (SOIC, 14-Leads, Body 8.6x3.9mm, Pitch 1.27mm, IPC Medium Density)
footprint M14A_L (SOIC, 14-Leads, Body 8.6x3.9mm, Pitch 1.27mm, IPC High Density)
footprint M14A_M (SOIC, 14-Leads, Body 8.6x3.9mm, Pitch 1.27mm, IPC Low Density)
simulation model LMH6644 (SUBCKT)
pins on every part: 4 V+ (power), 11 V- (power)
part A pins: 1 OUTA (out), 2 INA- (in), 3 INA+ (in)
part B pins: 5 INB+ (in), 6 INB- (in), 7 OUTB (out)
part C pins: 8 OUTC (out), 9 INC- (in), 10 INC+ (in)
part D pins: 12 IND+ (in), 13 IND- (in), 14 OUTD (out)

## LMH6644MAX
designator U?
Low Power, 130MHz, 75mA Rail-to-Rail Output Amplifiers, 14-pin Narrow SOIC; PartNumber: LMH6644MAX; Manufacturer: National Semiconductor; PackageTopMarking: NSUZXYTTE#*LMH6644MA; PowerWise: Y; Published: 1-Mar-2010; DatasheetVersion: Nov-2009; PackageVersion: revJ, Jan-1996; PackageReference: M14A; Publisher: Altium Limited; PackageDescription: Molded Package S.O., .150in Wide, 14 Lead; RoHS: N; PinCount: 14; CompType: Amplifiers; Code_JEDEC: MS-012AB; Code_IPC: SOIC127P600-14; ComponentLink1Description: LMH6644 Datasheet; ComponentLink1URL: http://www.national.com/ds/LM/LMH6644.pdf; ComponentLink2Description: LMH6644 Web Page; ComponentLink2URL: http://www.national.com/pf/LM/LMH6644.html; ComponentLink3Description: M14A Package Page; ComponentLink3URL: http://www.national.com/packaging/folders/m14a.html
footprint M14A_N (SOIC, 14-Leads, Body 8.6x3.9mm, Pitch 1.27mm, IPC Medium Density)
footprint M14A_L (SOIC, 14-Leads, Body 8.6x3.9mm, Pitch 1.27mm, IPC High Density)
footprint M14A_M (SOIC, 14-Leads, Body 8.6x3.9mm, Pitch 1.27mm, IPC Low Density)
simulation model LMH6644 (SUBCKT)
pins on every part: 4 V+ (power), 11 V- (power)
part A pins: 1 OUTA (out), 2 INA- (in), 3 INA+ (in)
part B pins: 5 INB+ (in), 6 INB- (in), 7 OUTB (out)
part C pins: 8 OUTC (out), 9 INC- (in), 10 INC+ (in)
part D pins: 12 IND+ (in), 13 IND- (in), 14 OUTD (out)

## LMH6644MT
designator U?
Low Power, 130MHz, 75mA Rail-to-Rail Output Amplifier, 14-pin TSSOP; PartNumber: LMH6644MT; Manufacturer: National Semiconductor; PackageTopMarking: NSZXYTT*LMH66*44MT; PowerWise: Y; CompType: Amplifiers; Published: 4-Dec-2008; LatestRevisionDate: 13-Jan-2009; LatestRevisionNote: Sim Model Added.; DatasheetVersion: Nov-2009; PackageVersion: revD, Jun-2003; PackageReference: MTC14; Publisher: Altium Limited; PackageDescription: Molded TSSOP, JEDEC, 5 x 4.4 x 0.9mm Body, 14 Lead, 0.65mm Pitch; Supplier 1: Farnell; Supplier Part Number 1: 1286943; RoHS: N; PinCount: 14; Code_JEDEC: MO-153-AB-1; ComponentLink1Description: LMH6644 Datasheet; ComponentLink1URL: http://www.national.com/ds/LM/LMH6644.pdf; ComponentLink2Description: LMH6644 Web Page; ComponentLink2URL: http://www.national.com/pf/LM/LMH6644.html; ComponentLink3Description: MTC14 Package Page; ComponentLink3URL: http://www.national.com/packaging/folders/mtc14.html
footprint MTC14_N (TSOP, 14-Leads, Body 5x4.4mm, Pitch 0.65mm, IPC Medium Density)
footprint MTC14_L (TSOP, 14-Leads, Body 5x4.4mm, Pitch 0.65mm, IPC High Density)
footprint MTC14_M (TSOP, 14-Leads, Body 5x4.4mm, Pitch 0.65mm, IPC Low Density)
simulation model LMH6644 (SUBCKT)
pins on every part: 4 V+ (power), 11 V- (power)
part A pins: 1 OUTA (out), 2 INA- (in), 3 INA+ (in)
part B pins: 5 INB+ (in), 6 INB- (in), 7 OUTB (out)
part C pins: 8 OUTC (out), 9 INC- (in), 10 INC+ (in)
part D pins: 12 IND+ (in), 13 IND- (in), 14 OUTD (out)

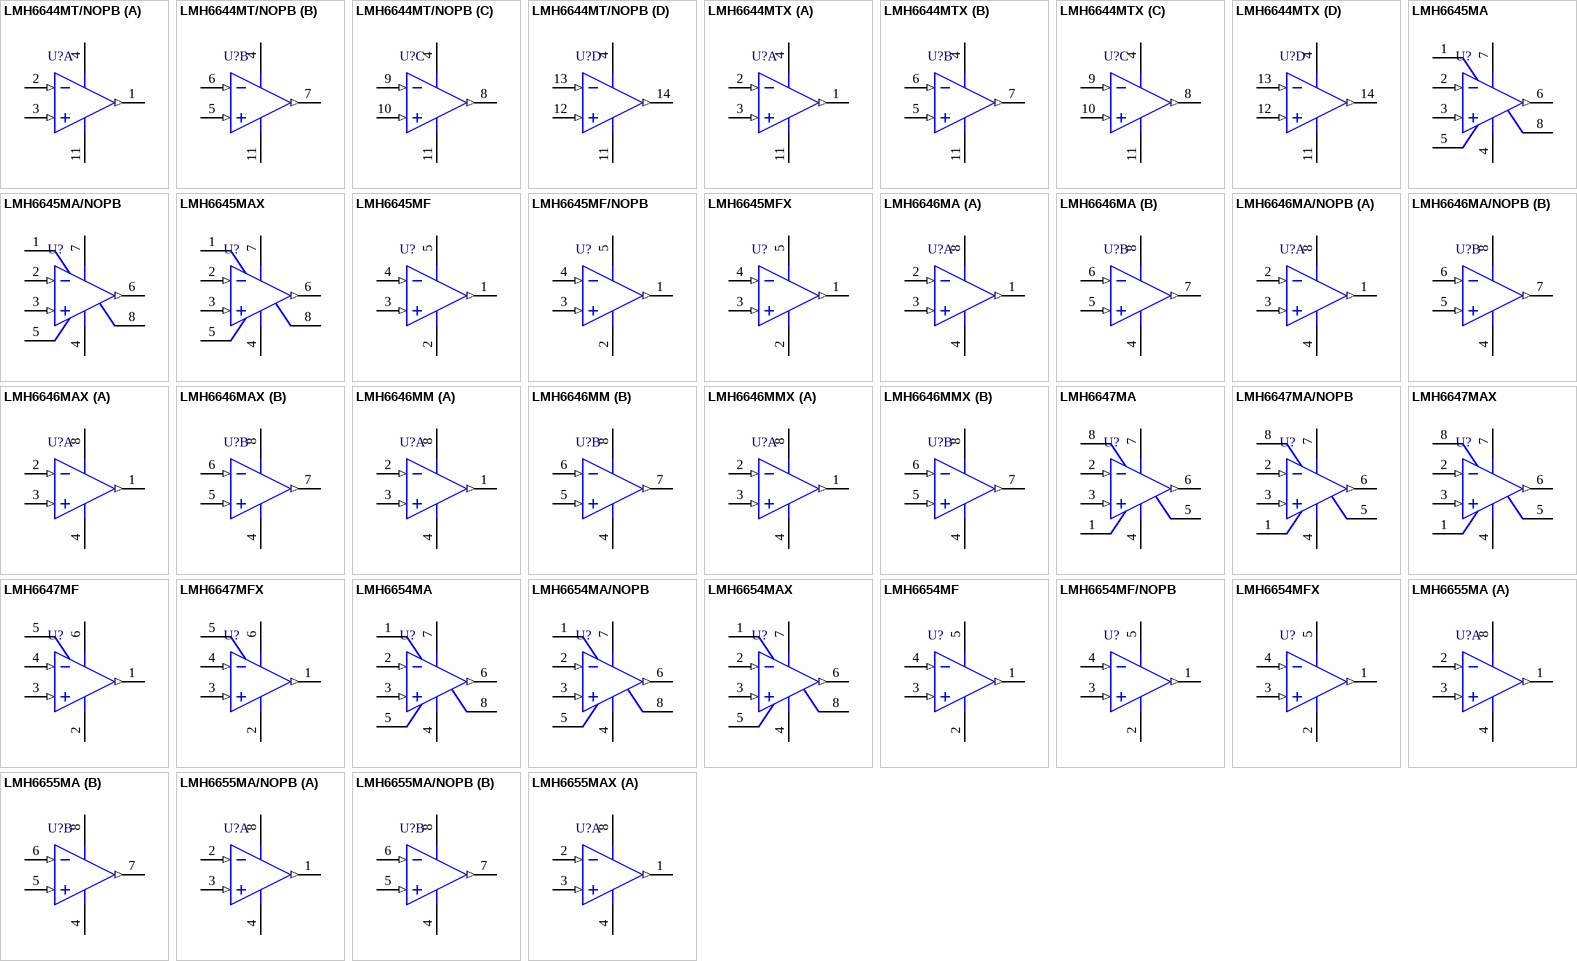
[diagram p47: symbols LMH6644MT/NOPB to LMH6655MAX]

## LMH6644MT/NOPB
designator U?
Low Power, 130MHz, 75mA Rail-to-Rail Output Amplifiers, 14-pin TSSOP, Pb-Free; PartNumber: LMH6644MT/NOPB; Manufacturer: National Semiconductor; PackageTopMarking: NSZXYTT*LMH66*44MT; PowerWise: Y; Published: 1-Mar-2010; DatasheetVersion: Nov-2009; PackageVersion: revD, Jun-2003; PackageReference: MTC14; Publisher: Altium Limited; PackageDescription: Molded TSSOP, JEDEC, 5 x 4.4 x 0.9mm Body, 14 Lead, 0.65mm Pitch; Supplier 1: Digi-Key; Supplier Part Number 1: LMH6644MT-ND; Supplier 2: Farnell; Supplier Part Number 2: 1654297; RoHS: Y; PinCount: 14; CompType: Amplifiers; Code_JEDEC: MO-153-AB-1; ComponentLink1Description: LMH6644 Datasheet; ComponentLink1URL: http://www.national.com/ds/LM/LMH6644.pdf; ComponentLink2Description: LMH6644 Web Page; ComponentLink2URL: http://www.national.com/pf/LM/LMH6644.html; ComponentLink3Description: MTC14 Package Page; ComponentLink3URL: http://www.national.com/packaging/folders/mtc14.html
footprint MTC14_N (TSOP, 14-Leads, Body 5x4.4mm, Pitch 0.65mm, IPC Medium Density)
footprint MTC14_L (TSOP, 14-Leads, Body 5x4.4mm, Pitch 0.65mm, IPC High Density)
footprint MTC14_M (TSOP, 14-Leads, Body 5x4.4mm, Pitch 0.65mm, IPC Low Density)
simulation model LMH6644 (SUBCKT)
pins on every part: 4 V+ (power), 11 V- (power)
part A pins: 1 OUTA (out), 2 INA- (in), 3 INA+ (in)
part B pins: 5 INB+ (in), 6 INB- (in), 7 OUTB (out)
part C pins: 8 OUTC (out), 9 INC- (in), 10 INC+ (in)
part D pins: 12 IND+ (in), 13 IND- (in), 14 OUTD (out)

## LMH6644MTX
designator U?
Low Power, 130MHz, 75mA Rail-to-Rail Output Amplifiers, 14-pin TSSOP; PartNumber: LMH6644MTX; Manufacturer: National Semiconductor; PackageTopMarking: NSZXYTT*LMH66*44MT; PowerWise: Y; Published: 1-Mar-2010; DatasheetVersion: Nov-2009; PackageVersion: revD, Jun-2003; PackageReference: MTC14; Publisher: Altium Limited; PackageDescription: Molded TSSOP, JEDEC, 5 x 4.4 x 0.9mm Body, 14 Lead, 0.65mm Pitch; RoHS: N; PinCount: 14; CompType: Amplifiers; Code_JEDEC: MO-153-AB-1; ComponentLink1Description: LMH6644 Datasheet; ComponentLink1URL: http://www.national.com/ds/LM/LMH6644.pdf; ComponentLink2Description: LMH6644 Web Page; ComponentLink2URL: http://www.national.com/pf/LM/LMH6644.html; ComponentLink3Description: MTC14 Package Page; ComponentLink3URL: http://www.national.com/packaging/folders/mtc14.html
footprint MTC14_N (TSOP, 14-Leads, Body 5x4.4mm, Pitch 0.65mm, IPC Medium Density)
footprint MTC14_L (TSOP, 14-Leads, Body 5x4.4mm, Pitch 0.65mm, IPC High Density)
footprint MTC14_M (TSOP, 14-Leads, Body 5x4.4mm, Pitch 0.65mm, IPC Low Density)
simulation model LMH6644 (SUBCKT)
pins on every part: 4 V+ (power), 11 V- (power)
part A pins: 1 OUTA (out), 2 INA- (in), 3 INA+ (in)
part B pins: 5 INB+ (in), 6 INB- (in), 7 OUTB (out)
part C pins: 8 OUTC (out), 9 INC- (in), 10 INC+ (in)
part D pins: 12 IND+ (in), 13 IND- (in), 14 OUTD (out)

## LMH6645MA
designator U?
2.7V, 650uA, 65MHz, Rail-to-Rail Input and Output Amplifiers with Shutdown Option, 8-pin Narrow SOIC; PartNumber: LMH6645MA; Manufacturer: National Semiconductor; PackageTopMarking: NSZXTT*LMH66*45MA; PowerWise: Y; Published: 4-Dec-2008; LatestRevisionDate: 13-Jan-2009; LatestRevisionNote: Sim Model Added.; DatasheetVersion: Jun-2005; PackageVersion: revM, May-2009; PackageReference: M08A; Publisher: Altium Limited; PackageDescription: SOIC Narrow, 4.9 x 3.9 x 1.45mm, 8 Lead, 1.27mm Pitch; RoHS: N; PinCount: 8; CompType: Amplifiers; Code_JEDEC: MS-012-AA; Code_IPC: SOIC127P600-8; ComponentLink1Description: LMH6645 Datasheet; ComponentLink1URL: http://www.national.com/ds/LM/LMH6645.pdf; ComponentLink2Description: LMH6645 Web Page; ComponentLink2URL: http://www.national.com/pf/LM/LMH6645.html; ComponentLink3Description: M08A Package Page; ComponentLink3URL: http://www.national.com/packaging/folders/m08a.html
footprint M08A_N (SOIC, 8-Leads, Body 4.9x3.9mm, Pitch 1.27mm, IPC Medium Density)
footprint M08A_L (SOIC, 8-Leads, Body 4.9x3.9mm, Pitch 1.27mm, IPC High Density)
footprint M08A_M (SOIC, 8-Leads, Body 4.9x3.9mm, Pitch 1.27mm, IPC Low Density)
simulation model LMH6645 (SUBCKT)
pins: 1 NC, 2 IN- (in), 3 IN+ (in), 4 V- (power), 5 NC, 6 OUT (out), 7 V+ (power), 8 NC

## LMH6645MA/NOPB
designator U?
2.7V, 650uA, 65MHz, Rail-to-Rail Input and Output Amplifiers with Shutdown Option, 8-pin Narrow SOIC, Pb-Free; PartNumber: LMH6645MA/NOPB; Manufacturer: National Semiconductor; PackageTopMarking: NSZXTT*LMH66*45MA; PowerWise: Y; Published: 1-Mar-2010; DatasheetVersion: Jun-2005; PackageVersion: revM, May-2009; PackageReference: M08A; Publisher: Altium Limited; PackageDescription: SOIC Narrow, 4.9 x 3.9 x 1.45mm, 8 Lead, 1.27mm Pitch; Supplier 1: Digi-Key; Supplier Part Number 1: LMH6645MA-ND; RoHS: Y; PinCount: 8; CompType: Amplifiers; Code_JEDEC: MS-012-AA; Code_IPC: SOIC127P600-8; ComponentLink1Description: LMH6645 Datasheet; ComponentLink1URL: http://www.national.com/ds/LM/LMH6645.pdf; ComponentLink2Description: LMH6645 Web Page; ComponentLink2URL: http://www.national.com/pf/LM/LMH6645.html; ComponentLink3Description: M08A Package Page; ComponentLink3URL: http://www.national.com/packaging/folders/m08a.html
footprint M08A_N (SOIC, 8-Leads, Body 4.9x3.9mm, Pitch 1.27mm, IPC Medium Density)
footprint M08A_L (SOIC, 8-Leads, Body 4.9x3.9mm, Pitch 1.27mm, IPC High Density)
footprint M08A_M (SOIC, 8-Leads, Body 4.9x3.9mm, Pitch 1.27mm, IPC Low Density)
simulation model LMH6645 (SUBCKT)
pins: 1 NC, 2 IN- (in), 3 IN+ (in), 4 V- (power), 5 NC, 6 OUT (out), 7 V+ (power), 8 NC

## LMH6645MAX
designator U?
2.7V, 650uA, 65MHz, Rail-to-Rail Input and Output Amplifiers with Shutdown Option, 8-pin Narrow SOIC; PartNumber: LMH6645MAX; Manufacturer: National Semiconductor; PackageTopMarking: NSZXTT*LMH66*45MA; PowerWise: Y; Published: 1-Mar-2010; DatasheetVersion: Jun-2005; PackageVersion: revM, May-2009; PackageReference: M08A; Publisher: Altium Limited; PackageDescription: SOIC Narrow, 4.9 x 3.9 x 1.45mm, 8 Lead, 1.27mm Pitch; RoHS: N; PinCount: 8; CompType: Amplifiers; Code_JEDEC: MS-012-AA; Code_IPC: SOIC127P600-8; ComponentLink1Description: LMH6645 Datasheet; ComponentLink1URL: http://www.national.com/ds/LM/LMH6645.pdf; ComponentLink2Description: LMH6645 Web Page; ComponentLink2URL: http://www.national.com/pf/LM/LMH6645.html; ComponentLink3Description: M08A Package Page; ComponentLink3URL: http://www.national.com/packaging/folders/m08a.html
footprint M08A_N (SOIC, 8-Leads, Body 4.9x3.9mm, Pitch 1.27mm, IPC Medium Density)
footprint M08A_L (SOIC, 8-Leads, Body 4.9x3.9mm, Pitch 1.27mm, IPC High Density)
footprint M08A_M (SOIC, 8-Leads, Body 4.9x3.9mm, Pitch 1.27mm, IPC Low Density)
simulation model LMH6645 (SUBCKT)
pins: 1 NC, 2 IN- (in), 3 IN+ (in), 4 V- (power), 5 NC, 6 OUT (out), 7 V+ (power), 8 NC

## LMH6645MF
designator U?
2.7V, 650uA, 65MHz, Rail-to-Rail Input and Output Amplifiers with Shutdown Option, 5-pin SOT-23; PartNumber: LMH6645MF; Manufacturer: National Semiconductor; PackageTopMarking: A68A*XTT; PowerWise: Y; Published: 4-Dec-2008; LatestRevisionDate: 13-Jan-2009; LatestRevisionNote: Sim Model Added.; DatasheetVersion: Jun-2005; PackageVersion: revD, Aug-2008; PackageReference: MF05A; Publisher: Altium Limited; PackageDescription: Molded SOT-23, .115 x .063 x .040 in Body, 5 Lead, .0375 in Pitch; Supplier 1: Farnell; Supplier Part Number 1: 1312813; RoHS: N; PinCount: 5; CompType: Amplifiers; ComponentLink1Description: LMH6645 Datasheet; ComponentLink1URL: http://www.national.com/ds/LM/LMH6645.pdf; ComponentLink2Description: LMH6645 Web Page; ComponentLink2URL: http://www.national.com/pf/LM/LMH6645.html; ComponentLink3Description: MF05A Package Page; ComponentLink3URL: http://www.national.com/packaging/folders/mf05a.html
footprint MF05A_N (SOT23, 5-Leads, Body 2.9x1.6mm, Pitch 0.95mm, Lead Span 2.8mm, IPC Medium Density)
footprint MF05A_L (SOT23, 5-Leads, Body 2.9x1.6mm, Pitch 0.95mm, Lead Span 2.8mm, IPC High Density)
footprint MF05A_M (SOT23, 5-Leads, Body 2.9x1.6mm, Pitch 0.95mm, Lead Span 2.8mm, IPC Low Density)
simulation model LMH6645 (SUBCKT)
pins: 1 OUT (out), 2 V- (power), 3 IN+ (in), 4 IN- (in), 5 V+ (power)